# Altium footprint library SOT.PcbLib: 5 footprints
Each footprint in its own frame and in the unit in brackets; x right, y up, seen from the top. Pads: shape width x height; smd on the part's side, far side on the other; paste and mask are expansions set on the pad; w line width, h text height; cw(c..) or ccw(c..) is an arc to the next point about the centre after c.
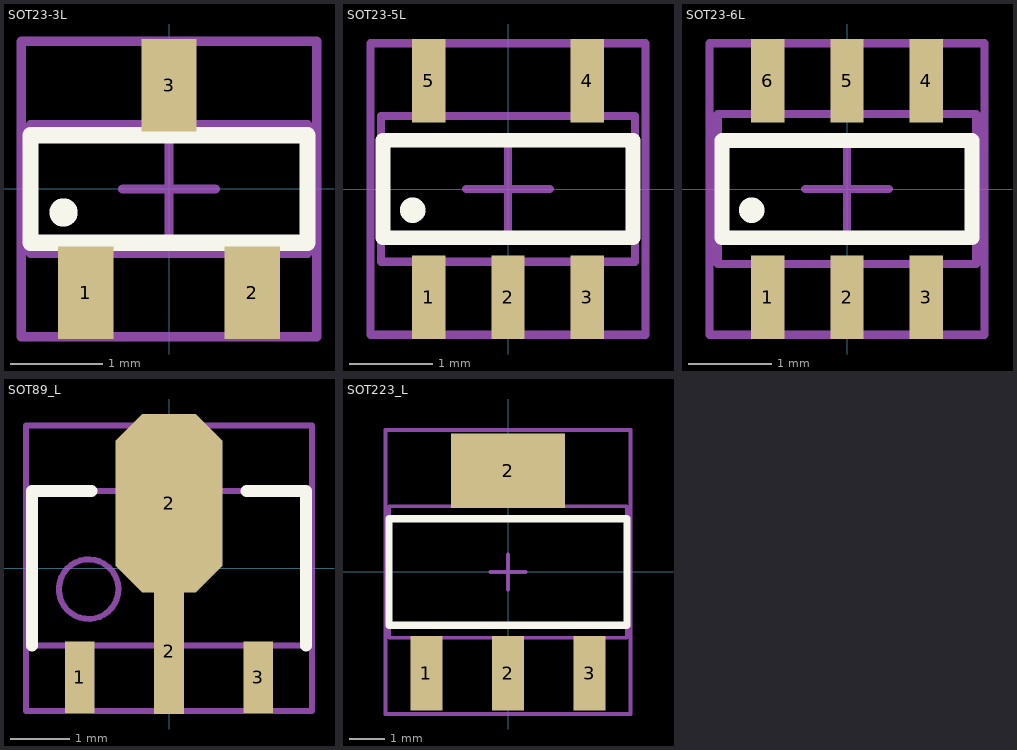
[diagram p0: the footprints below, top view; thin cyan lines are the x and y axes]

## SOT23-3L [mm] "SOT23, 3-Leads, Body 2.9x1.3mm, Pitch 0.95mm, Lead Span 2.3mm - Reverse Pinning, IPC High Density"
height 1.1
pads (3):
  rect 0.6x1 smd: 1(-0.9,-1.125) 2(0.9,-1.125) 3(0,1.125)
Top Overlay:
  circle w0.254: c-1.143,-0.254 r0.025
  lines w0.178: -1.5,-0.584 1.5,-0.584 1.5,0.584 -1.5,0.584 -1.5,-0.584
Mechanical 13:
  lines w0.1: -1.5,-0.7 -1.5,0.7 1.5,0.7 1.5,-0.7 -1.5,-0.7
Mechanical 15:
  lines w0.1: -0.5,0 0.5,0 ; 0,-0.5 0,0.5 ; -1.6,-1.6 -1.6,1.6 1.6,1.6 1.6,-1.6 -1.6,-1.6
3D body "SOT23.STEP": height 1.08, standoff 0, extent -1.5,-1.345 1.5,1.295

## SOT23-5L [mm]
pads (5):
  rect 0.4x1 smd: 1(-0.95,-1.3) 2(0,-1.3) 3(0.95,-1.3) 4(0.95,1.3) 5(-0.95,1.3)
Top Overlay:
  circle w0.254: c-1.143,-0.254 r0.025
  lines w0.178: -1.5,-0.584 -1.5,0.584 1.5,0.584 1.5,-0.584 -1.5,-0.584
Mechanical 13:
  lines w0.1: -1.525,-0.875 -1.525,0.875 1.525,0.875 1.525,-0.875 -1.525,-0.875
Mechanical 15:
  lines w0.1: -0.5,0 0.5,0 ; 0,-0.5 0,0.5 ; -1.65,-1.75 -1.65,1.75 1.65,1.75 1.65,-1.75 -1.65,-1.75
3D body "User Library-SOT23-5.STEP": height 1.09, standoff -0.01, extent -1.45,-1.401 1.449,1.399

## SOT23-6L [mm] "SOT23, 6-Leads, Body 2.9x1.6mm, Pitch 0.95mm, Lead Span 2.7mm, IPC High Density"
height 1.45
pads (6):
  rect 0.4x1 smd: 1(-0.95,-1.3) 2(0,-1.3) 3(0.95,-1.3) 4(0.95,1.3) 5(0,1.3) 6(-0.95,1.3)
Top Overlay:
  circle w0.254: c-1.143,-0.254 r0.025
  lines w0.178: -1.5,-0.585 1.5,-0.585 1.5,0.584 -1.5,0.584 -1.5,-0.585
Mechanical 13:
  lines w0.1: -1.55,-0.9 -1.55,0.9 1.55,0.9 1.55,-0.9 -1.55,-0.9
Mechanical 15:
  lines w0.1: -0.5,0 0.5,0 ; 0,-0.5 0,0.5 ; -1.65,-1.75 -1.65,1.75 1.65,1.75 1.65,-1.75 -1.65,-1.75
3D body "SOT23-6.STEP": height 1.55, standoff 0, extent -1.5,-1.504 1.5,1.504

## SOT89_L [mm] "SOT89, 3-Leads, Body 4.5x2.4 mm, Pitch 1.5mm, Lead Span 4.1mm, IPC High Density"
height 1.6
pads (4):
  rect 0.5x1.2 smd: 1(-1.5,-1.827) 3(1.5,-1.827)
  rect 0.5x2.1 smd: 2(0,-1.397)
  oct 1.8x3 smd: 2(0,1.092)
Top Overlay:
  lines w0.2: -2.3,-1.3 -2.3,1.3 -1.3,1.3 ; 1.3,1.3 2.3,1.3 2.3,-1.3
Mechanical 13:
  circle w0.1: c-1.35,-0.35 r0.5
  lines w0.1: -2.3,-1.3 2.3,-1.3 2.3,1.3 -2.3,1.3 -2.3,-1.3
Mechanical 15:
  lines w0.1: -0.5,0 0.5,0 ; 0,-0.5 0,0.5 ; -2.4,-2.4 2.4,-2.4 2.4,2.4 -2.4,2.4 -2.4,-2.4
3D body "SOT89.STEP": height 1.64, standoff 0.03, extent -2.314,-2.201 2.286,2.049

## SOT223_L [mm] "SOT223, 4-Leads, Body 6.5x3.5mm, Pitch 2.3mm, Lead Span 7mm, IPC High Density"
height 1.7
pads (4):
  rect 0.9x2.1 smd: 1(-2.3,-2.85) 2(0,-2.85) 3(2.3,-2.85)
  rect 3.2x2.1 smd: 2(0,2.85)
Top Overlay:
  lines w0.2: -3.35,-1.5 -3.35,1.5 3.35,1.5 3.35,-1.5 -3.35,-1.5
Mechanical 13:
  lines w0.1: -3.35,-1.85 -3.35,1.85 3.35,1.85 3.35,-1.85 -3.35,-1.85
Mechanical 15:
  lines w0.1: -0.5,0 0.5,0 ; 0,-0.5 0,0.5 ; -3.45,-4 -3.45,4 3.45,4 3.45,-4 -3.45,-4
3D body "SOT223.STEP": height 1.74, standoff 0.09, extent -3.301,-3.475 3.199,3.525